# Altium footprint library VBlib_Relays.PcbLib: 9 footprints
Each footprint in its own frame and in the unit in brackets; x right, y up, seen from the top. Pads: shape width x height; smd on the part's side, far side on the other; paste and mask are expansions set on the pad; w line width, h text height; cw(c..) or ccw(c..) is an arc to the next point about the centre after c.
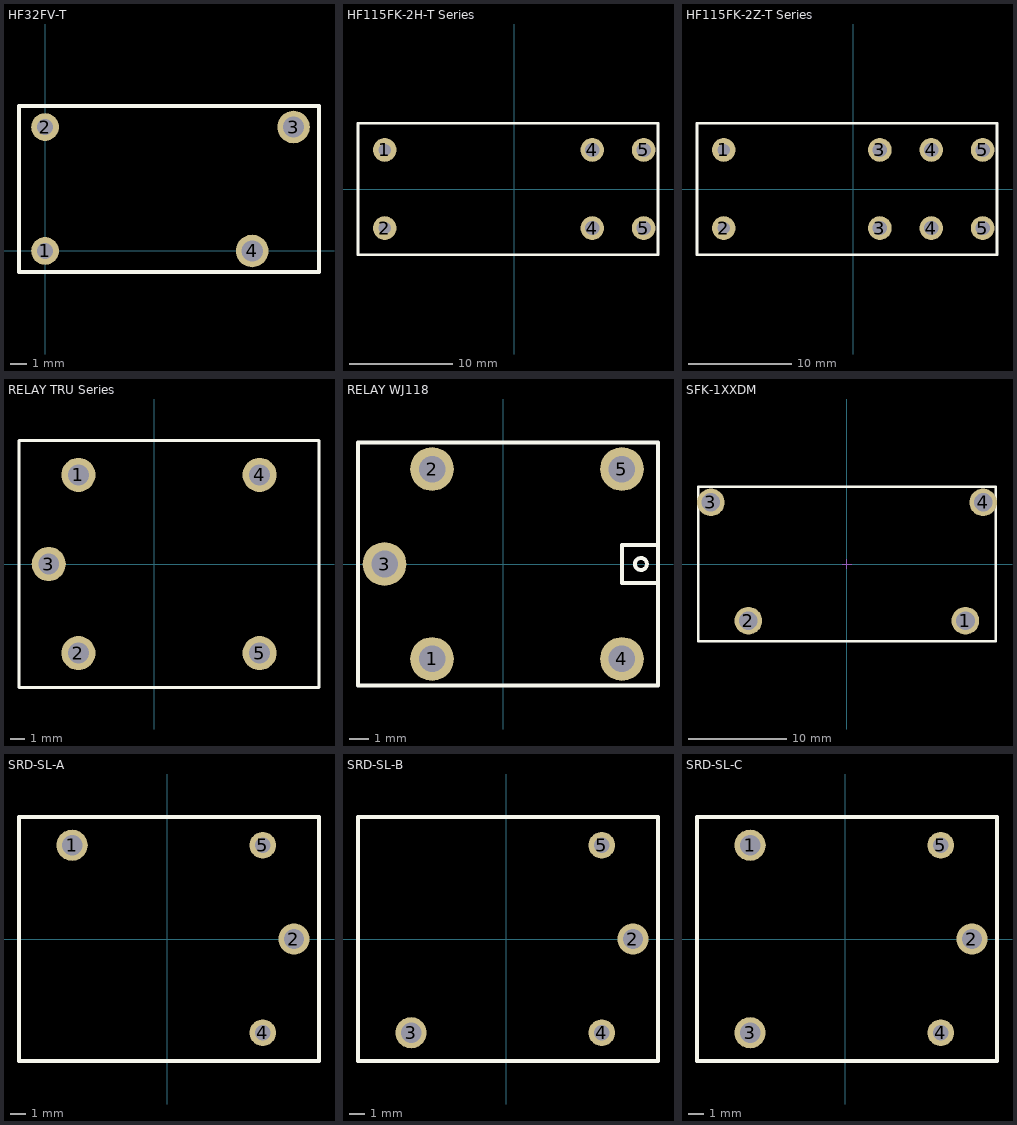
[diagram p0: the footprints below, top view; thin cyan lines are the x and y axes]

## HF32FV-T [mm] "Power Relay 10A"
height 15.5
pads (4):
  round 1.7 hole 1: 1(0,0) 2(0,7.6)
  round 2 hole 1.3: 3(15.24,7.6) 4(12.7,0)
Top Overlay:
  lines w0.25: -1.6,-1.3 -1.6,8.9 16.8,8.9 16.8,-1.3 -1.6,-1.3
3D body "HF32FV-T.stp": height 15.82, standoff -3.48, extent -1.6,-1.3 16.8,8.9

## HF115FK-2H-T Series [mm]
pads (6):
  round 2.3 hole 1.2: 1(-12.6,3.8) 2(-12.6,-3.8)
  round 2.3 hole 1.4: 4(7.6,-3.8) 4(7.6,3.8) 5(12.6,3.8) 5(12.6,-3.8)
Top Overlay:
  lines w0.25: -15.2,-6.4 14,-6.4 14,6.4 -15.2,6.4 -15.2,-6.4
3D body "HF115FK-T.STEP": height 15.7, standoff -3.4, extent -15.2,-6.4 13.8,6.3

## HF115FK-2Z-T Series [mm] "RELAY HF115FK-T Series (HONGFA RELAY)"
height 15.7
pads (8):
  round 2.3 hole 1.2: 1(-12.6,3.8) 2(-12.6,-3.8)
  round 2.3 hole 1.4: 3(2.6,-3.8) 3(2.6,3.8) 4(7.6,-3.8) 4(7.6,3.8) 5(12.6,3.8) 5(12.6,-3.8)
Top Overlay:
  lines w0.25: -15.2,-6.4 14,-6.4 14,6.4 -15.2,6.4 -15.2,-6.4
3D body "HF115FK-T.STEP": height 15.7, standoff -3.4, extent -15.2,-6.4 13.8,6.3

## RELAY TRU Series [mm] "RELAY TRU FORM C Series"
height 20.2
pads (5):
  round 2.3 hole 1.4: 1(-5.1,6) 2(-5.1,-6) 3(-7.1,0) 4(7.1,6) 5(7.1,-6)
Top Overlay:
  lines w0.2: -9.1,-8.3 -9.1,8.3 11.1,8.3 11.1,-8.3 -9.1,-8.3
3D body: height 20, standoff 0.2, extent -9,-8.2 11,8.2

## RELAY WJ118 [mm] "RELAY WJ118"
height 14
pads (5):
  round 2.3 hole 1.4: 1(-3.75,-5) 2(-3.75,5) 3(-6.25,0) 4(6.25,-5) 5(6.25,5)
Top Overlay:
  circle w0.2: c7.25,0 r0.316
  lines w0.2: 8.15,-1 6.25,-1 6.25,1 8.15,1 ; -7.65,-6.4 -7.65,6.4 8.15,6.4 8.15,-6.4 -7.65,-6.4
3D body: height 14, standoff 0.1, extent -7.65,-6.4 8.15,6.4

## SFK-1XXDM [mm] "SFK-1XXDM"
height 15.7
pads (4):
  round 2.8 hole 1.9: 1(12,-5.75) 2(-10,-5.75) 3(-13.8,6.25) 4(13.8,6.25)
Top Overlay:
  lines w0.25: -15.05,-7.85 -15.05,7.85 15.05,7.85 15.05,-7.85 -15.05,-7.85
Mechanical 15:
  lines w0.1: -0.5,0 0.5,0 ; 0,-0.5 0,0.5
3D body: height 33.3, standoff 23.3, extent 6.375,-3.6 12.725,-2.8
3D body: height 33.3, standoff 23.3, extent -12.125,2.8 -5.775,3.6
3D body: height 23.3, standoff 0, extent -15.05,-7.85 15.05,7.85

## SRD-SL-A [mm] "Power Relay 15A"
height 15.8
pads (4):
  round 2 hole 1.3: 1(-6.1,6) 2(8.1,0)
  round 1.7 hole 1: 4(6.1,-6) 5(6.1,6)
Top Overlay:
  lines w0.25: -9.5,-7.8 -9.5,7.8 9.7,7.8 9.7,-7.8 -9.5,-7.8
3D body: height 15.8, standoff 0, extent -9.5,-7.8 9.7,7.8
3D body: height 0, standoff -2.5, extent -6.6,5.5 -5.6,6.5
3D body: height 0, standoff -2.5, extent 7.6,-0.5 8.6,0.5
3D body: height 0, standoff -2.5, extent 5.8,5.7 6.4,6.3
3D body: height 0, standoff -2.5, extent 5.8,-6.3 6.4,-5.7

## SRD-SL-B [mm] "Power Relay 15A"
height 15.8
pads (4):
  round 2 hole 1.3: 2(8.1,0) 3(-6.1,-6)
  round 1.7 hole 1: 4(6.1,-6) 5(6.1,6)
Top Overlay:
  lines w0.25: -9.5,-7.8 -9.5,7.8 9.7,7.8 9.7,-7.8 -9.5,-7.8
3D body: height 15.8, standoff 0, extent -9.5,-7.8 9.7,7.8
3D body: height 0, standoff -2.5, extent 7.6,-0.5 8.6,0.5
3D body: height 0, standoff -2.5, extent 5.8,5.7 6.4,6.3
3D body: height 0, standoff -2.5, extent 5.8,-6.3 6.4,-5.7
3D body: height 0, standoff -2.5, extent -6.6,-6.5 -5.6,-5.5

## SRD-SL-C [mm] "Power Relay 15A"
height 15.8
pads (5):
  round 2 hole 1.3: 1(-6.1,6) 2(8.1,0) 3(-6.1,-6)
  round 1.7 hole 1: 4(6.1,-6) 5(6.1,6)
Top Overlay:
  lines w0.25: -9.5,-7.8 -9.5,7.8 9.7,7.8 9.7,-7.8 -9.5,-7.8
3D body: height 15.8, standoff 0, extent -9.5,-7.8 9.7,7.8
3D body: height 0, standoff -2.5, extent -6.6,-6.5 -5.6,-5.5
3D body: height 0, standoff -2.5, extent -6.6,5.5 -5.6,6.5
3D body: height 0, standoff -2.5, extent 7.6,-0.5 8.6,0.5
3D body: height 0, standoff -2.5, extent 5.8,5.7 6.4,6.3
3D body: height 0, standoff -2.5, extent 5.8,-6.3 6.4,-5.7